# EAGLE library part ADXL362 (library sensors)
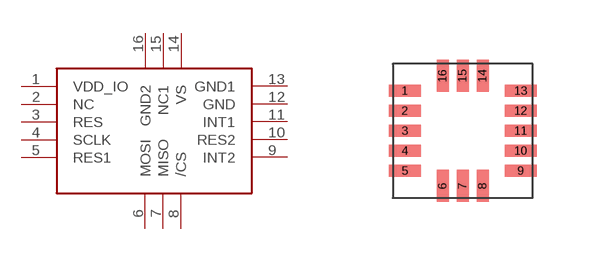
[diagram p1: symbol with the pads of ADXL362_PADS; footprint ADXL362_PADS]

Designator prefix -

## ADXL362  [ADXL362_PADS]
1  VDD_IO
2  NC
3  RES
4  SCLK
5  RES1
6  MOSI
7  MISO
8  /CS
9  INT2
10  RES2
11  INT1
12  GND
13  GND1
14  VS
15  NC1
16  GND2

## Footprint ADXL362_PADS (pad centres in mm)
smd 0.8 x 0.3: 1 0.3,2.675; 2 0.3,2.175; 3 0.3,1.675; 4 0.3,1.175; 5 0.3,0.675; 9 3.2,0.675; 10 3.2,1.175; 11 3.2,1.675; 12 3.2,2.175; 13 3.2,2.675
smd 0.3 x 0.8: 6 1.25,0.3; 7 1.75,0.3; 8 2.25,0.3; 14 2.25,3.05; 15 1.75,3.05; 16 1.25,3.05